# EAGLE library part 1282-LPC11U24FBD48/401, (library CircuitHub)
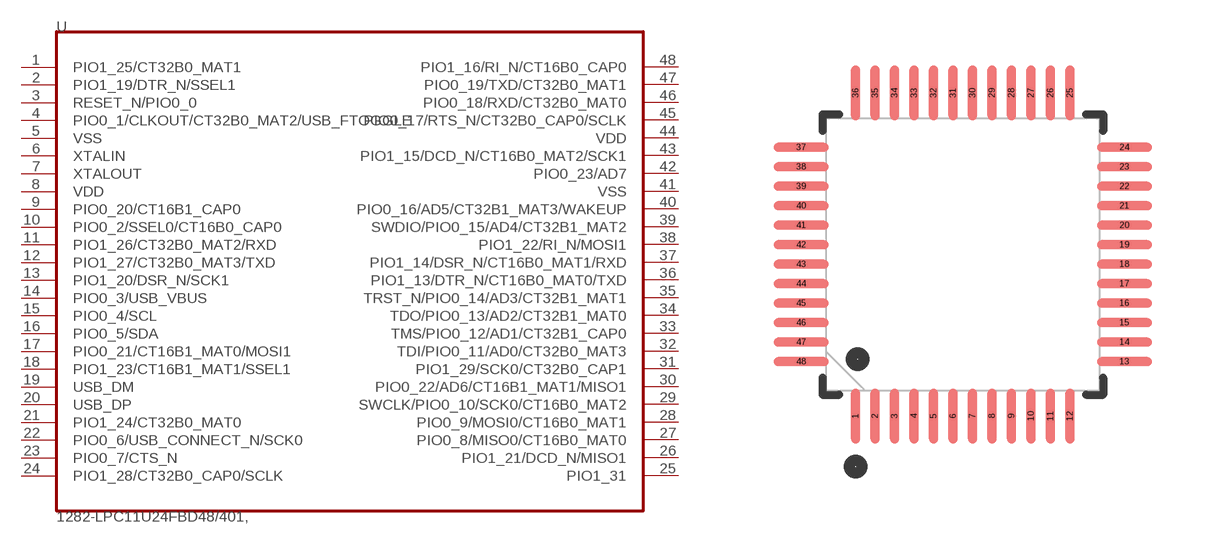
[diagram p1: symbol with the pads of melissa/dintu; footprint melissa/dintu]

Designator prefix U

## 1282-LPC11U24FBD48/401, (CircuitHubID: 1282; URL: https://circuithub.com/parts/NXP/LPC11U24FBD48%2F401%2C; footprintRevision: 80f05cb86d9e67aacf426a027030eab4869b28e1; footprintURN: melissa/dintu; symbolRevision: 931ce2c9f3c4cc92ff0dd597b16d87b2932b4d45; symbolURN: bittenbybytes/dftya)  [melissa/dintu]
1  PIO1_25/CT32B0_MAT1  in
2  PIO1_19/DTR_N/SSEL1  in
3  RESET_N/PIO0_0  in
4  PIO0_1/CLKOUT/CT32B0_MAT2/USB_FTOGGLE  in
5  VSS  in
6  XTALIN  in
7  XTALOUT  in
8  VDD  in
9  PIO0_20/CT16B1_CAP0  in
10  PIO0_2/SSEL0/CT16B0_CAP0  in
11  PIO1_26/CT32B0_MAT2/RXD  in
12  PIO1_27/CT32B0_MAT3/TXD  in
13  PIO1_20/DSR_N/SCK1  in
14  PIO0_3/USB_VBUS  in
15  PIO0_4/SCL  in
16  PIO0_5/SDA  in
17  PIO0_21/CT16B1_MAT0/MOSI1  in
18  PIO1_23/CT16B1_MAT1/SSEL1  in
19  USB_DM  in
20  USB_DP  in
21  PIO1_24/CT32B0_MAT0  in
22  PIO0_6/USB_CONNECT_N/SCK0  in
23  PIO0_7/CTS_N  in
24  PIO1_28/CT32B0_CAP0/SCLK  in
25  PIO1_31  in
26  PIO1_21/DCD_N/MISO1  in
27  PIO0_8/MISO0/CT16B0_MAT0  in
28  PIO0_9/MOSI0/CT16B0_MAT1  in
29  SWCLK/PIO0_10/SCK0/CT16B0_MAT2  in
30  PIO0_22/AD6/CT16B1_MAT1/MISO1  in
31  PIO1_29/SCK0/CT32B0_CAP1  in
32  TDI/PIO0_11/AD0/CT32B0_MAT3  in
33  TMS/PIO0_12/AD1/CT32B1_CAP0  in
34  TDO/PIO0_13/AD2/CT32B1_MAT0  in
35  TRST_N/PIO0_14/AD3/CT32B1_MAT1  in
36  PIO1_13/DTR_N/CT16B0_MAT0/TXD  in
37  PIO1_14/DSR_N/CT16B0_MAT1/RXD  in
38  PIO1_22/RI_N/MOSI1  in
39  SWDIO/PIO0_15/AD4/CT32B1_MAT2  in
40  PIO0_16/AD5/CT32B1_MAT3/WAKEUP  in
41  VSS  in
42  PIO0_23/AD7  in
43  PIO1_15/DCD_N/CT16B0_MAT2/SCK1  in
44  VDD  in
45  PIO0_17/RTS_N/CT32B0_CAP0/SCLK  in
46  PIO0_18/RXD/CT32B0_MAT0  in
47  PIO0_19/TXD/CT32B0_MAT1  in
48  PIO1_16/RI_N/CT16B0_CAP0  in

## Footprint melissa/dintu (pad centres in mm)
smd 0.23 x 1.406: 1 -2.75,-4.147; 2 -2.25,-4.147; 3 -1.75,-4.147; 4 -1.25,-4.147; 5 -0.75,-4.147; 6 -0.25,-4.147; 7 0.25,-4.147; 8 0.75,-4.147; 9 1.25,-4.147; 10 1.75,-4.147; 11 2.25,-4.147; 12 2.75,-4.147; 25 2.75,4.147; 26 2.25,4.147; 27 1.75,4.147; 28 1.25,4.147; 29 0.75,4.147; 30 0.25,4.147; 31 -0.25,4.147; 32 -0.75,4.147; 33 -1.25,4.147; 34 -1.75,4.147; 35 -2.25,4.147; 36 -2.75,4.147
smd 1.406 x 0.23: 13 4.147,-2.75; 14 4.147,-2.25; 15 4.147,-1.75; 16 4.147,-1.25; 17 4.147,-0.75; 18 4.147,-0.25; 19 4.147,0.25; 20 4.147,0.75; 21 4.147,1.25; 22 4.147,1.75; 23 4.147,2.25; 24 4.147,2.75; 37 -4.147,2.75; 38 -4.147,2.25; 39 -4.147,1.75; 40 -4.147,1.25; 41 -4.147,0.75; 42 -4.147,0.25; 43 -4.147,-0.25; 44 -4.147,-0.75; 45 -4.147,-1.25; 46 -4.147,-1.75; 47 -4.147,-2.25; 48 -4.147,-2.75